# Altium footprint library 5010.PcbLib: 1 footprints
Each footprint in its own frame and in the unit in brackets; x right, y up, seen from the top. Pads: shape width x height; smd on the part's side, far side on the other; paste and mask are expansions set on the pad; w line width, h text height; cw(c..) or ccw(c..) is an arc to the next point about the centre after c.
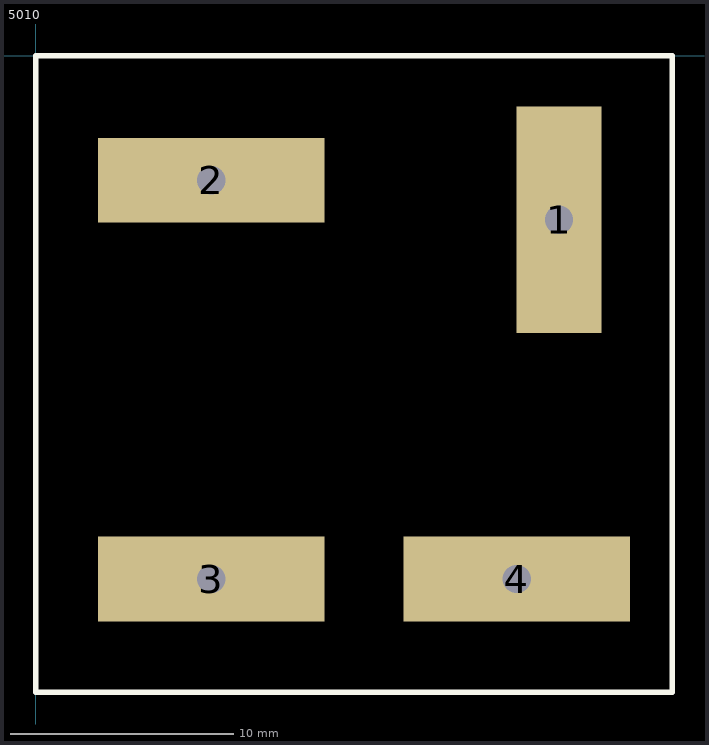
[diagram p0: the footprint, top view; thin cyan lines are the x and y axes]

## 5010 [mil]
pads (4):
  rect 150x400 hole 50 square: 1(925,-290)
  rect 400x150 hole 50 square: 2(310,-220) 3(310,-925) 4(850,-925)
Top Overlay:
  lines w10: 0,-1125 1125,-1125 1125,0 0,0 0,-1125